# Altium schematic symbol library Schlib1.SchLib: 29 symbols
Pins are listed as number, name and electrical type; pins without a type are passive.

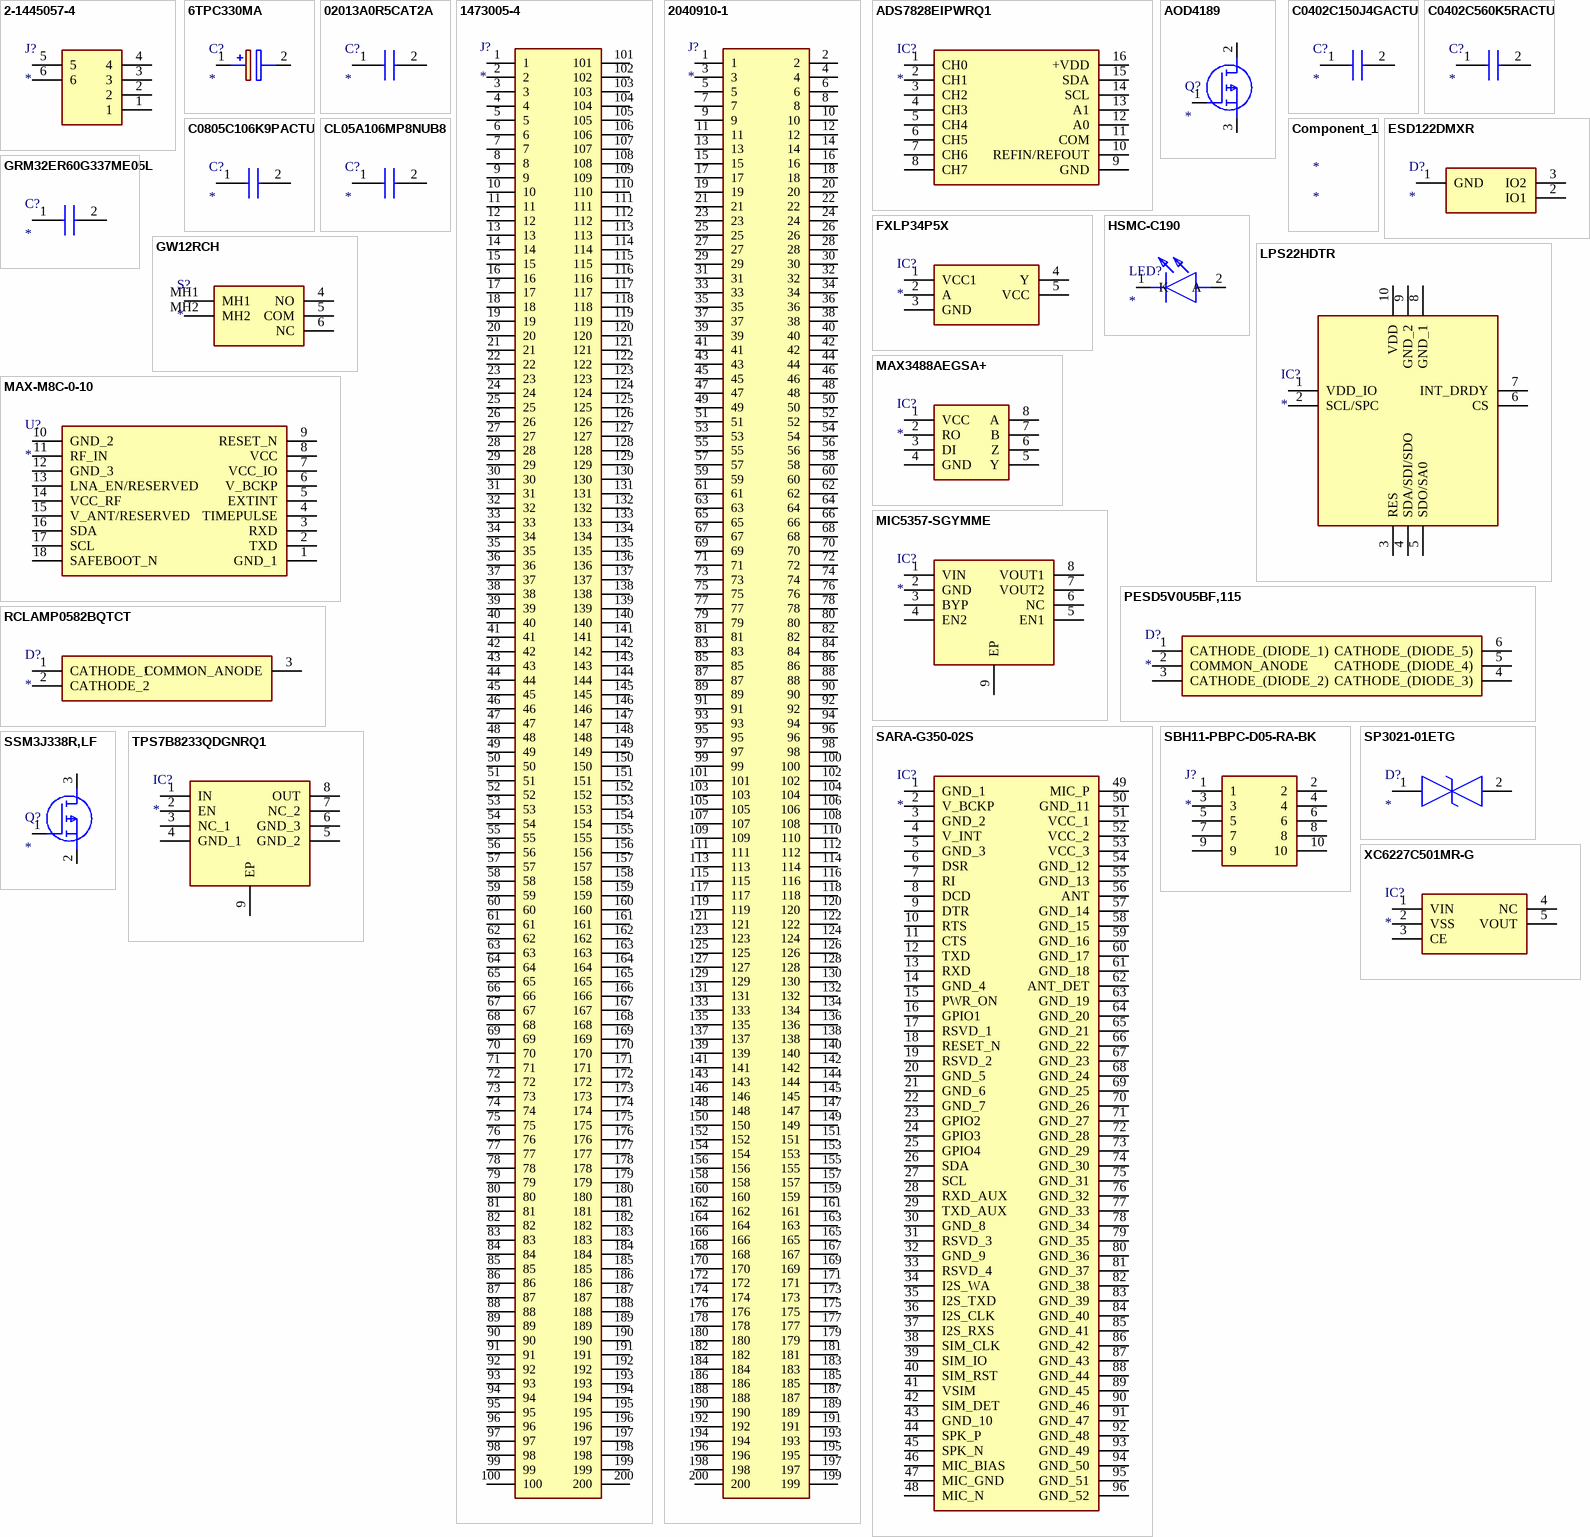
[diagram p0: symbols 2-1445057-4 to XC6227C501MR-G]

## 2-1445057-4
designator J?
Connector; Manufacturer_Name: TE Connectivity; Manufacturer_Part_Number: 2-1445057-4; Datasheet Link: http://www.te.com/commerce/DocumentDelivery/DDEController?Action=showdoc&DocId=Customer+Drawing%7F1445057%7FC3%7Fpdf%7FEnglish%7FENG_CD_1445057_C3.pdf%7F2-1445057-4; Height: 3mm; Arrow Part Number: 2-1445057-4; Arrow Price/Stock: https://www.arrow.com/en/products/2-1445057-4/te-connectivity; Mouser Part Number: 571-2-1445057-4; Mouser Price/Stock: https://www.mouser.co.uk/ProductDetail/TE-Connectivity-AMP/2-1445057-4?qs=MP5IOa7hLjUITJfr001xww%3D%3D
footprint 214450574
pins: 1, 2, 3, 4, 5, 6

## 6TPC330MA
designator C?
Capacitor Polarised; Manufacturer_Name: Panasonic; Manufacturer_Part_Number: 6TPC330MA; Datasheet Link: https://industrial.panasonic.com/cdbs/www-data/pdf/AAA8000/AAA8000C68.pdf; Height: 2mm; Arrow Part Number: 6TPC330MA; Arrow Price/Stock: https://www.arrow.com/en/products/6tpc330ma/panasonic; Mouser Part Number: 667-6TPC330MA; Mouser Price/Stock: https://www.mouser.co.uk/ProductDetail/Panasonic/6TPC330MA?qs=OE1iw1LrrPEq6z1np%252BZymw%3D%3D
footprint CAPPM7343X200N
pins: 1 +, 2 -

## 02013A0R5CAT2A
designator C?
Capacitor; Manufacturer_Name: AVX; Manufacturer_Part_Number: 02013A0R5CAT2A; Datasheet Link: http://www.mouser.com/catalog/supplier/library/pdf/AVXSurfaceMountCeramic.pdf; Height: 0.33mm; Arrow Part Number: 02013A0R5CAT2A; Arrow Price/Stock: https://www.arrow.com/en/products/02013a0r5cat2a/avx; Mouser Part Number: 581-02013A0R5C; Mouser Price/Stock: https://www.mouser.co.uk/ProductDetail/AVX/02013A0R5CAT2A?qs=Thry1QCnmXB3nXCuXCgVMw%3D%3D
footprint CAPC0603X33N
pins: 1, 2

## 1473005-4
designator J?
Connector; Manufacturer_Name: TE Connectivity; Manufacturer_Part_Number: 1473005-4; Datasheet Link: http://docs-emea.rs-online.com/webdocs/06cc/0900766b806ccc0f.pdf; Arrow Part Number: 1473005-4; Arrow Price/Stock: https://www.arrow.com/en/products/1473005-4/te-connectivity; Mouser Part Number: 571-1473005-4; Mouser Price/Stock: https://www.mouser.co.uk/ProductDetail/TE-Connectivity/1473005-4?qs=VZ9FDhhp7Sl6t6qwUOr3aA%3D%3D
footprint 1473005-4_1
pins: 1, 2, 3, 4, 5, 6, 7, 8, 9, 10, 11, 12, 13, 14, 15, 16, 17, 18, 19, 20, 21, 22, 23, 24, 25, 26, 27, 28, 29, 30, 31, 32, 33, 34, 35, 36, 37, 38, 39, 40, 41, 42, 43, 44, 45, 46, 47, 48, 49, 50, 51, 52, 53, 54, 55, 56, 57, 58, 59, 60, 61, 62, 63, 64, 65, 66, 67, 68, 69, 70, 71, 72, 73, 74, 75, 76, 77, 78, 79, 80, 81, 82, 83, 84, 85, 86, 87, 88, 89, 90, 91, 92, 93, 94, 95, 96, 97, 98, 99, 100, 101, 102, 103, 104, 105, 106, 107, 108, 109, 110, 111, 112, 113, 114, 115, 116, 117, 118, 119, 120, 121, 122, 123, 124, 125, 126, 127, 128, 129, 130, 131, 132, 133, 134, 135, 136, 137, 138, 139, 140, 141, 142, 143, 144, 145, 146, 147, 148, 149, 150, 151, 152, 153, 154, 155, 156, 157, 158, 159, 160, 161, 162, 163, 164, 165, 166, 167, 168, 169, 170, 171, 172, 173, 174, 175, 176, 177, 178, 179, 180, 181, 182, 183, 184, 185, 186, 187, 188, 189, 190, 191, 192, 193, 194, 195, 196, 197, 198, 199, 200

## 2040910-1
designator J?
Connector; Manufacturer_Name: TE Connectivity; Manufacturer_Part_Number: 2040910-1; Datasheet Link: https://www.arrow.com/en/products/2040910-1/te-connectivity; Height: 15mm; Arrow Part Number: 2040910-1; Arrow Price/Stock: https://www.arrow.com/en/products/2040910-1/te-connectivity; Mouser Part Number: 571-2040910-1; Mouser Price/Stock: https://www.mouser.co.uk/ProductDetail/TE-Connectivity/2040910-1?qs=kAqyOuzYGe9tF8FZbDgYRA%3D%3D
footprint 20409101
pins: 1, 2, 3, 4, 5, 6, 7, 8, 9, 10, 11, 12, 13, 14, 15, 16, 17, 18, 19, 20, 21, 22, 23, 24, 25, 26, 27, 28, 29, 30, 31, 32, 33, 34, 35, 36, 37, 38, 39, 40, 41, 42, 43, 44, 45, 46, 47, 48, 49, 50, 51, 52, 53, 54, 55, 56, 57, 58, 59, 60, 61, 62, 63, 64, 65, 66, 67, 68, 69, 70, 71, 72, 73, 74, 75, 76, 77, 78, 79, 80, 81, 82, 83, 84, 85, 86, 87, 88, 89, 90, 91, 92, 93, 94, 95, 96, 97, 98, 99, 100, 101, 102, 103, 104, 105, 106, 107, 108, 109, 110, 111, 112, 113, 114, 115, 116, 117, 118, 119, 120, 121, 122, 123, 124, 125, 126, 127, 128, 129, 130, 131, 132, 133, 134, 135, 136, 137, 138, 139, 140, 141, 142, 143, 144, 145, 146, 147, 148, 149, 150, 151, 152, 153, 154, 155, 156, 157, 158, 159, 160, 161, 162, 163, 164, 165, 166, 167, 168, 169, 170, 171, 172, 173, 174, 175, 176, 177, 178, 179, 180, 181, 182, 183, 184, 185, 186, 187, 188, 189, 190, 191, 192, 193, 194, 195, 196, 197, 198, 199, 200

## ADS7828EIPWRQ1
designator IC?
Integrated Circuit; Manufacturer_Name: Texas Instruments; Manufacturer_Part_Number: ADS7828EIPWRQ1; Datasheet Link: http://www.ti.com/lit/gpn/ads7828-q1; Arrow Part Number: ADS7828EIPWRQ1; Arrow Price/Stock: https://www.arrow.com/en/products/ads7828eipwrq1/texas-instruments; Mouser Part Number: 595-ADS7828EIPWRQ1; Mouser Price/Stock: https://www.mouser.co.uk/ProductDetail/Texas-Instruments/ADS7828EIPWRQ1?qs=JxdSYA%2FPj%252BGxjoBBVPoX2A%3D%3D
footprint SOP65P640X120-16N
pins: 1 CH0, 2 CH1, 3 CH2, 4 CH3, 5 CH4, 6 CH5, 7 CH6, 8 CH7, 9 GND, 10 REFIN/REFOUT, 11 COM, 12 A0, 13 A1, 14 SCL, 15 SDA, 16 +VDD

## AOD4189
designator Q?
MOSFET (P-Channel); Manufacturer_Name: Alpha & Omega Semiconductors; Manufacturer_Part_Number: AOD4189; Datasheet Link: http://aosmd.com/res/data_sheets/AOD4189.pdf; Height: 2mm; Arrow Part Number: AOD4189; Arrow Price/Stock: https://www.arrow.com/en/products/aod4189/alpha-and-omega-semiconductor
footprint AOD480
pins: 1 G, 2 D, 3 S

## C0402C150J4GACTU
designator C?
Capacitor; Manufacturer_Name: Kemet; Manufacturer_Part_Number: C0402C150J4GACTU; Datasheet Link: https://content.kemet.com/datasheets/KEM_C1002_X7R_SMD.pdf; Height: 0.55mm; Arrow Part Number: C0402C150J4GACTU; Arrow Price/Stock: https://www.arrow.com/en/products/c0402c150j4gactu/kemet-corporation; Mouser Part Number: 80-C0402C150J4G; Mouser Price/Stock: https://www.mouser.com/Search/Refine.aspx?Keyword=80-C0402C150J4G
footprint CAPC1005X55N
pins: 1, 2

## C0402C560K5RACTU
designator C?
Capacitor; Manufacturer_Name: Kemet; Manufacturer_Part_Number: C0402C560K5RACTU; Datasheet Link: https://content.kemet.com/datasheets/KEM_C1002_X7R_SMD.pdf; Height: 0.55mm; Arrow Part Number: C0402C560K5RACTU; Mouser Part Number: 80-C0402C560K5RACTU; Mouser Price/Stock: https://www.mouser.co.uk/ProductDetail/KEMET/C0402C560K5RACTU?qs=gt1LBUVyoHmQZW5v3ySgNQ%3D%3D
footprint CAPC1005X55N
pins: 1, 2

## C0805C106K9PACTU
designator C?
Capacitor; Manufacturer_Name: Kemet; Manufacturer_Part_Number: C0805C106K9PACTU; Arrow Part Number: C0805C106K9PACTU; Arrow Price/Stock: https://www.arrow.com/en/products/c0805c106k9pactu/kemet-corporation; Mouser Part Number: 80-C0805C106K9P; Mouser Price/Stock: https://www.mouser.co.uk/ProductDetail/KEMET/C0805C106K9PACTU?qs=XSafd0xJmRKSlopKOUHD0w%3D%3D
footprint CAPC2013X140N
pins: 1 C1, 2 C2

## CL05A106MP8NUB8
designator C?
Capacitor; Manufacturer_Name: Samsung Electro-Mechanics; Manufacturer_Part_Number: CL05A106MP8NUB8; Datasheet Link: http://www.samsungsem.com/kr/support/product-search/mlcc/CL05A106MP8NUB8.jsp; Height: 0.9mm; Arrow Part Number: CL05A106MP8NUB8; Arrow Price/Stock: https://www.arrow.com/en/products/cl05a106mp8nub8/samsung-electro-mechanics; Mouser Part Number: N/A; Mouser Price/Stock: https://www.mouser.com/Search/Refine.aspx?Keyword=N%2FA
footprint CAPC1005X90N
pins: 1, 2

## Component_1
designator *

## ESD122DMXR
designator D?
TVS Diode (Bi-directional); Manufacturer_Name: Texas Instruments; Manufacturer_Part_Number: ESD122DMXR; Description: 2-Channel ESD Protection Diode for USB Type-C and HDMI 2.0; Datasheet Link: http://www.ti.com/lit/gpn/esd122; Arrow Part Number: ESD122DMXR; Arrow Price/Stock: https://www.arrow.com/en/products/esd122dmxr/texas-instruments; Mouser Part Number: 595-ESD122DMXR; Mouser Price/Stock: https://www.mouser.co.uk/ProductDetail/Texas-Instruments/ESD122DMXR?qs=gt1LBUVyoHlO%2FS8I%252Bb9aFA%3D%3D
footprint DMX0003A
pins: 1 GND, 2 IO1, 3 IO2

## FXLP34P5X
designator IC?
Integrated Circuit; Manufacturer_Name: ON Semiconductor; Manufacturer_Part_Number: FXLP34P5X; Datasheet Link: https://www.onsemi.com/pub/Collateral/FXLP34-D.pdf; Height: 1.1mm; Arrow Part Number: FXLP34P5X; Arrow Price/Stock: https://www.arrow.com/en/products/fxlp34p5x/on-semiconductor; Mouser Part Number: 512-FXLP34P5X; Mouser Price/Stock: https://www.mouser.com/Search/Refine.aspx?Keyword=512-FXLP34P5X
footprint SOT65P210X110-5N
pins: 1 VCC1, 2 A, 3 GND, 4 Y, 5 VCC

## GRM32ER60G337ME05L
designator C?
Capacitor; Manufacturer_Name: Murata Electronics; Manufacturer_Part_Number: GRM32ER60G337ME05L; Datasheet Link: https://componentsearchengine.com/Datasheets/2/GRM32ER60G337ME05L.pdf; Height: 2.8mm; Arrow Part Number: GRM32ER60G337ME05L; Arrow Price/Stock: https://www.arrow.com/en/products/grm32er60g337me05l/murata-manufacturing; Mouser Part Number: 81-GRM32ER60G337ME5L; Mouser Price/Stock: https://www.mouser.co.uk/ProductDetail/Murata-Electronics/GRM32ER60G337ME05L?qs=MzgNgRTiRUU9wX46aOSi8Q%3D%3D
footprint CAPC3225X280N
pins: 1, 2

## GW12RCH
designator S?
Switch; Manufacturer_Name: NKK Switches; Manufacturer_Part_Number: GW12RCH; Datasheet Link: https://www.mouser.com/datasheet/2/295/GW-1663576.pdf; Height: 5.4mm; Arrow Part Number: GW12RCH; Arrow Price/Stock: https://www.arrow.com/en/products/gw12rch/nkk-switches; Mouser Part Number: 633-GW12RCH; Mouser Price/Stock: https://www.mouser.co.uk/ProductDetail/NKK-Switches/GW12RCH?qs=4EnmSMTL3HMGaO7owX5AXQ%3D%3D
footprint GW12RCH
pins: 4 NO, 5 COM, 6 NC, MH1, MH2

## HSMC-C190
designator LED?
LED; Manufacturer_Name: Avago Technologies; Manufacturer_Part_Number: HSMC-C190; Datasheet Link: http://www.mouser.hk/ProductDetail/Broadcom-Avago/HSMC-C190/?qs=YDL0qNrpDT4TTmzDJNXHWQ==; Height: 0.9mm; Arrow Part Number: HSMC-C190; Mouser Part Number: 630-HSMC-C190; Mouser Price/Stock: https://www.mouser.co.uk/ProductDetail/Broadcom-Avago/HSMC-C190?qs=YDL0qNrpDT4TTmzDJNXHWQ%3D%3D
footprint LEDC1608X90N
pins: 1 K, 2 A

## LPS22HDTR
designator IC?
Integrated Circuit; Manufacturer_Name: STMicroelectronics; Manufacturer_Part_Number: LPS22HDTR; Datasheet Link: https://www.st.com/resource/en/datasheet/lps22hd.pdf; Height: 0.8mm; Arrow Part Number: LPS22HDTR; Arrow Price/Stock: https://www.arrow.com/en/products/lps22hdtr/stmicroelectronics; Mouser Part Number: 511-LPS22HDTR; Mouser Price/Stock: https://www.mouser.co.uk/ProductDetail/STMicroelectronics/LPS22HDTR?qs=qVqInAHJvrZgdoVrJXJCrw%3D%3D
footprint LPS22HDTR
pins: 1 VDD_IO, 2 SCL/SPC, 3 RES, 4 SDA/SDI/SDO, 5 SDO/SA0, 6 CS, 7 INT_DRDY, 8 GND_1, 9 GND_2, 10 VDD

## MAX3488AEGSA+
designator IC?
Integrated Circuit; Manufacturer_Name: Maxim Integrated; Manufacturer_Part_Number: MAX3488AEGSA+; Datasheet Link: https://datasheets.maximintegrated.com/en/ds/MAX3483AE-MAX3491AE.pdf; Height: 1.75mm; Arrow Part Number: MAX3488AEGSA+; Mouser Part Number: 700-MAX3488AEGSA+; Mouser Price/Stock: https://www.mouser.com/Search/Refine.aspx?Keyword=700-MAX3488AEGSA%2B
footprint SOIC127P600X175-8N
pins: 1 VCC, 2 RO, 3 DI, 4 GND, 5 Y, 6 Z, 7 B, 8 A

## MAX-M8C-0-10
designator U?
Undefined or Miscellaneous; Manufacturer_Name: U-Blox; Manufacturer_Part_Number: MAX-M8C-0-10; Datasheet Link: https://www.u-blox.com/sites/default/files/MAX-M8-FW3_DataSheet_%28UBX-15031506%29.pdf; Arrow Part Number: MAX-M8C-0-10
footprint MAX-M8
pins: 1 GND_1, 2 TXD, 3 RXD, 4 TIMEPULSE, 5 EXTINT, 6 V_BCKP, 7 VCC_IO, 8 VCC, 9 RESET_N, 10 GND_2, 11 RF_IN, 12 GND_3, 13 LNA_EN/RESERVED, 14 VCC_RF, 15 V_ANT/RESERVED, 16 SDA, 17 SCL, 18 SAFEBOOT_N

## MIC5357-SGYMME
designator IC?
Integrated Circuit; Manufacturer_Name: Microchip; Manufacturer_Part_Number: MIC5357-SGYMME; Datasheet Link: http://ww1.microchip.com/downloads/en/DeviceDoc/mic5357.pdf; Height: 1.04mm; Arrow Part Number: MIC5357-SGYMME; Arrow Price/Stock: https://www.arrow.com/en/products/mic5357-sgymme/microchip-technology; Mouser Part Number: 998-MIC5357-SGYMME; Mouser Price/Stock: https://www.mouser.com/Search/Refine.aspx?Keyword=998-MIC5357-SGYMME
footprint SOP65P490X104-9N
pins: 1 VIN, 2 GND, 3 BYP, 4 EN2, 5 EN1, 6 NC, 7 VOUT2, 8 VOUT1, 9 EP

## PESD5V0U5BF,115
designator D?
TVS Diode (Uni-directional); Manufacturer_Name: Nexperia; Manufacturer_Part_Number: PESD5V0U5BF,115; Description: ESD Suppressors / TVS Diodes Diode TVS Quint Bi-Dir 5V 6-Pin; Datasheet Link: https://assets.nexperia.com/documents/data-sheet/PESD5V0U5BF_PESD5V0U5BV.pdf; Height: 0.5mm; Arrow Part Number: PESD5V0U5BF,115; Arrow Price/Stock: https://www.arrow.com/en/products/pesd5v0u5bf115/nexperia; Mouser Part Number: 771-PESD5V0U5BF,115; Mouser Price/Stock: https://www.mouser.co.uk/ProductDetail/Nexperia/PESD5V0U5BF115?qs=PJ263BbL1t3SJO%2F8qTg1Uw%3D%3D
footprint PESD5V0U5BF115
pins: 1 CATHODE_(DIODE_1), 2 COMMON_ANODE, 3 CATHODE_(DIODE_2), 4 CATHODE_(DIODE_3), 5 CATHODE_(DIODE_4), 6 CATHODE_(DIODE_5)

## RCLAMP0582BQTCT
designator D?
TVS Diode (Uni-directional); Manufacturer_Name: SEMTECH; Manufacturer_Part_Number: RCLAMP0582BQTCT; Description: ESD Suppressors / TVS Diodes 2L 1PF 5V RCLAMP; Datasheet Link: https://www.semtech.com/uploads/documents/rclamp0582bq.pdf; Height: 0.9mm; Arrow Part Number: RCLAMP0582BQTCT; Arrow Price/Stock: https://www.arrow.com/en/products/rclamp0582bqtct/semtech; Mouser Part Number: 947-RCLAMP0582BQTCT; Mouser Price/Stock: https://www.mouser.co.uk/ProductDetail/Semtech/RCLAMP0582BQTCT?qs=rBWM4%252BvDhIdyuNQteOG89g%3D%3D
footprint SOT50P160X90-3N
pins: 1 CATHODE_1, 2 CATHODE_2, 3 COMMON_ANODE

## SARA-G350-02S
designator IC?
Integrated Circuit; Manufacturer_Name: U-Blox; Manufacturer_Part_Number: SARA-G350-02S; Datasheet Link: https://www.u-blox.com/sites/default/files/SARA-G3_DataSheet_%28UBX-13000993%29.pdf; Arrow Part Number: SARA-G350-02S
footprint SARA-G350_1
pins: 1 GND_1, 2 V_BCKP, 3 GND_2, 4 V_INT, 5 GND_3, 6 DSR, 7 RI, 8 DCD, 9 DTR, 10 RTS, 11 CTS, 12 TXD, 13 RXD, 14 GND_4, 15 PWR_ON, 16 GPIO1, 17 RSVD_1, 18 RESET_N, 19 RSVD_2, 20 GND_5, 21 GND_6, 22 GND_7, 23 GPIO2, 24 GPIO3, 25 GPIO4, 26 SDA, 27 SCL, 28 RXD_AUX, 29 TXD_AUX, 30 GND_8, 31 RSVD_3, 32 GND_9, 33 RSVD_4, 34 I2S_WA, 35 I2S_TXD, 36 I2S_CLK, 37 I2S_RXS, 38 SIM_CLK, 39 SIM_IO, 40 SIM_RST, 41 VSIM, 42 SIM_DET, 43 GND_10, 44 SPK_P, 45 SPK_N, 46 MIC_BIAS, 47 MIC_GND, 48 MIC_N, 49 MIC_P, 50 GND_11, 51 VCC_1, 52 VCC_2, 53 VCC_3, 54 GND_12, 55 GND_13, 56 ANT, 57 GND_14, 58 GND_15, 59 GND_16, 60 GND_17, 61 GND_18, 62 ANT_DET, 63 GND_19, 64 GND_20, 65 GND_21, 66 GND_22, 67 GND_23, 68 GND_24, 69 GND_25, 70 GND_26, 71 GND_27, 72 GND_28, 73 GND_29, 74 GND_30, 75 GND_31, 76 GND_32, 77 GND_33, 78 GND_34, 79 GND_35, 80 GND_36, 81 GND_37, 82 GND_38, 83 GND_39, 84 GND_40, 85 GND_41, 86 GND_42, 87 GND_43, 88 GND_44, 89 GND_45, 90 GND_46, 91 GND_47, 92 GND_48, 93 GND_49, 94 GND_50, 95 GND_51, 96 GND_52

## SBH11-PBPC-D05-RA-BK
designator J?
Connector; Manufacturer_Name: Sullins; Manufacturer_Part_Number: SBH11-PBPC-D05-RA-BK; Datasheet Link: http://sullinscorp.com/catalogs/145_PAGE118_.100_SBH11_SERIES_MALE_BOX_HDR_ST_RA_SMT.pdf; Height: 8.8mm; Arrow Part Number: SBH11-PBPC-D05-RA-BK
footprint SHDRRA10W64P254_2X5_1270X910X880P
pins: 1, 2, 3, 4, 5, 6, 7, 8, 9, 10

## SP3021-01ETG
designator D?
TVS Diode (Bi-directional); Manufacturer_Name: LITTELFUSE; Manufacturer_Part_Number: SP3021-01ETG; Description: ESD Suppressors / TVS Diodes 5V 1uA 8kV BIDIRECTIONAL; Datasheet Link: http://www.farnell.com/datasheets/2301234.pdf; Height: 0.6mm; Arrow Part Number: SP3021-01ETG; Arrow Price/Stock: https://www.arrow.com/en/products/sp3021-01etg/littelfuse; Mouser Part Number: 576-SP3021-01ETG; Mouser Price/Stock: https://www.mouser.co.uk/ProductDetail/Littelfuse/SP3021-01ETG?qs=Dj8dEyEphkMM8WgFF2cfqw%3D%3D
footprint SP302101ETG
pins: 1, 2

## SSM3J338R,LF
designator Q?
MOSFET (P-Channel); Manufacturer_Name: Toshiba; Manufacturer_Part_Number: SSM3J338R,LF; Datasheet Link: http://toshiba.semicon-storage.com/info/docget.jsp?did=30384&prodName=SSM3J338R; Arrow Part Number: SSM3J338R,LF; Arrow Price/Stock: https://www.arrow.com/en/products/ssm3j338rlf/toshiba; Mouser Part Number: 757-SSM3J338RLF; Mouser Price/Stock: https://www.mouser.co.uk/ProductDetail/Toshiba/SSM3J338RLF?qs=lhkzy8lC%252BSvURFM9ZjmJSw%3D%3D
footprint SSM3J332RLFT
pins: 1 G, 2 S, 3 D

## TPS7B8233QDGNRQ1
designator IC?
Integrated Circuit; Manufacturer_Name: Texas Instruments; Manufacturer_Part_Number: TPS7B8233QDGNRQ1; Datasheet Link: http://www.ti.com/lit/gpn/tps7b82-q1; Height: 1.1mm; Arrow Part Number: TPS7B8233QDGNRQ1; Arrow Price/Stock: https://www.arrow.com/en/products/tps7b8233qdgnrq1/texas-instruments; Mouser Part Number: 595-TPS7B8233QDGNRQ1; Mouser Price/Stock: https://www.mouser.co.uk/ProductDetail/Texas-Instruments/TPS7B8233QDGNRQ1?qs=gTYE2QTfZfTgserf%2FHg6KA%3D%3D
footprint SOP65P490X110-9N
pins: 1 IN, 2 EN, 3 NC_1, 4 GND_1, 5 GND_2, 6 GND_3, 7 NC_2, 8 OUT, 9 EP

## XC6227C501MR-G
designator IC?
Integrated Circuit; Manufacturer_Name: Torex; Manufacturer_Part_Number: XC6227C501MR-G; Datasheet Link: https://www.torexsemi.com/file/xc6227/XC6227.pdf; Height: 1.3mm; Arrow Part Number: XC6227C501MR-G; Mouser Part Number: 865-XC6227C501MR-G; Mouser Price/Stock: https://www.mouser.co.uk/ProductDetail/Torex-Semiconductor/XC6227C501MR-G?qs=AsjdqWjXhJ85%252BgmQqME4lA%3D%3D
footprint SOT95P280X130-5N
pins: 1 VIN, 2 VSS, 3 CE, 4 NC, 5 VOUT